# Altium footprint library CAPAE201190X170M.PcbLib: 1 footprints
Each footprint in its own frame and in the unit in brackets; x right, y up, seen from the top. Pads: shape width x height; smd on the part's side, far side on the other; paste and mask are expansions set on the pad; w line width, h text height; cw(c..) or ccw(c..) is an arc to the next point about the centre after c.
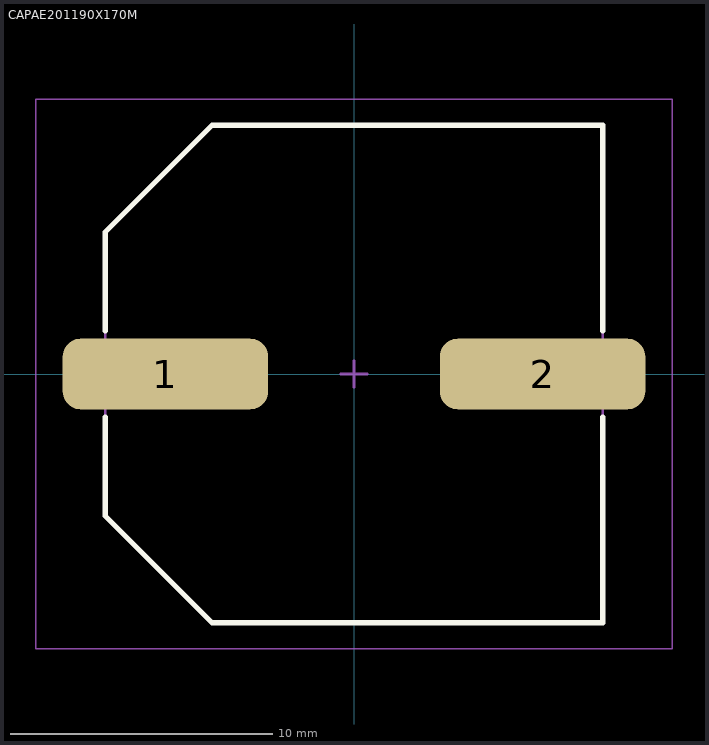
[diagram p0: the footprint, top view; thin cyan lines are the x and y axes]

## CAPAE201190X170M [mm] "Aluminum Electrolytic Capacitor, Body 19.00x19.00x17.00mm, IPC Low Density"
height 17
pads (2):
  rrect50% 7.85x2.7 smd: 1(-7.2,0) 2(7.2,0)
Top Overlay:
  lines w0.2: -9.5,-1.65 -9.5,-5.425 -5.425,-9.5 9.5,-9.5 9.5,-1.65 ; -9.5,1.65 -9.5,5.425 -5.425,9.5 9.5,9.5 9.5,1.65
Top Assembly:
  lines w0.1: -9.5,-5.425 -9.5,5.425 -5.425,9.5 9.5,9.5 9.5,-9.5 -5.425,-9.5 -9.5,-5.425
Top Courtyard:
  lines w0.05: -12.15,-10.5 12.15,-10.5 12.15,10.5 -12.15,10.5 -12.15,-10.5
  lines w0.1: -0.5,0 0.5,0 ; 0,-0.5 0,0.5
3D body "CAPAE201190X170M.step": height 17, standoff -1, extent -10.05,-9.5 10.05,9.5